# EAGLE library part POTENTIOMETER_250K (library MABOS_components)
Slide Potentiometers 250K LINEAR Source: Datasheet <https://www.bourns.com/docs/Product-Datasheets/pta.pdf>
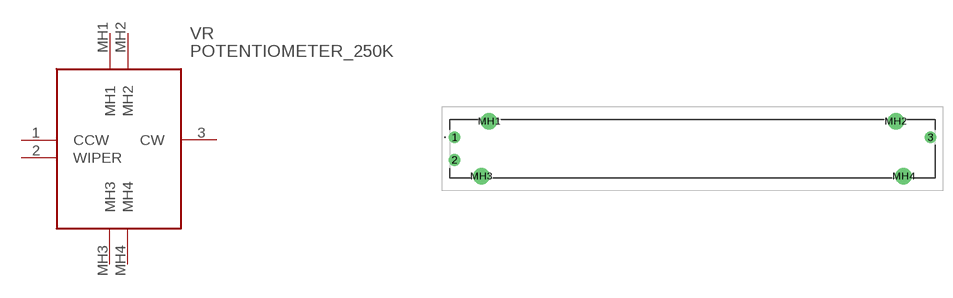
[diagram p4: symbol with the pads of PTA60432015DPB254; footprint PTA60432015DPB254]

Designator prefix VR

## POTENTIOMETER_250K (DESCRIPTION: Slide Potentiometers 250K LINEAR; HEIGHT: 21.5mm; MANUFACTURER_NAME: Bourns; MANUFACTURER_PART_NUMBER: PTA6043-2015DPB254; MOUSER_PART_NUMBER: 652-PTA6432015DPB254; MOUSER_PRICE-STOCK: https://www.mouser.co.uk/ProductDetail/Bourns/PTA6043-2015DPB254?qs=JCQZbRdZgKbjH0wkhhYAqQ%3D%3D)  [PTA60432015DPB254]
1  CCW
2  WIPER
3  CW
MH1  MH1
MH2  MH2
MH3  MH3
MH4  MH4

## Footprint PTA60432015DPB254 (pad centres in mm)
PTA6043-2015DPB254-2
drill 1.2 pad 1.8: 1 0,0; 2 0,-3.5; 3 73.5,0
drill 1.7 pad 2.55: MH1 5.35,2.5; MH2 68.15,2.5; MH3 4.15,-6; MH4 69.35,-6